# Altium footprint library PCB.PCBLIB: 320 footprints (part 4 of 20)
Each footprint in its own frame and in the unit in brackets; x right, y up, seen from the top. Pads: shape width x height; smd on the part's side, far side on the other; paste and mask are expansions set on the pad; w line width, h text height; cw(c..) or ccw(c..) is an arc to the next point about the centre after c.
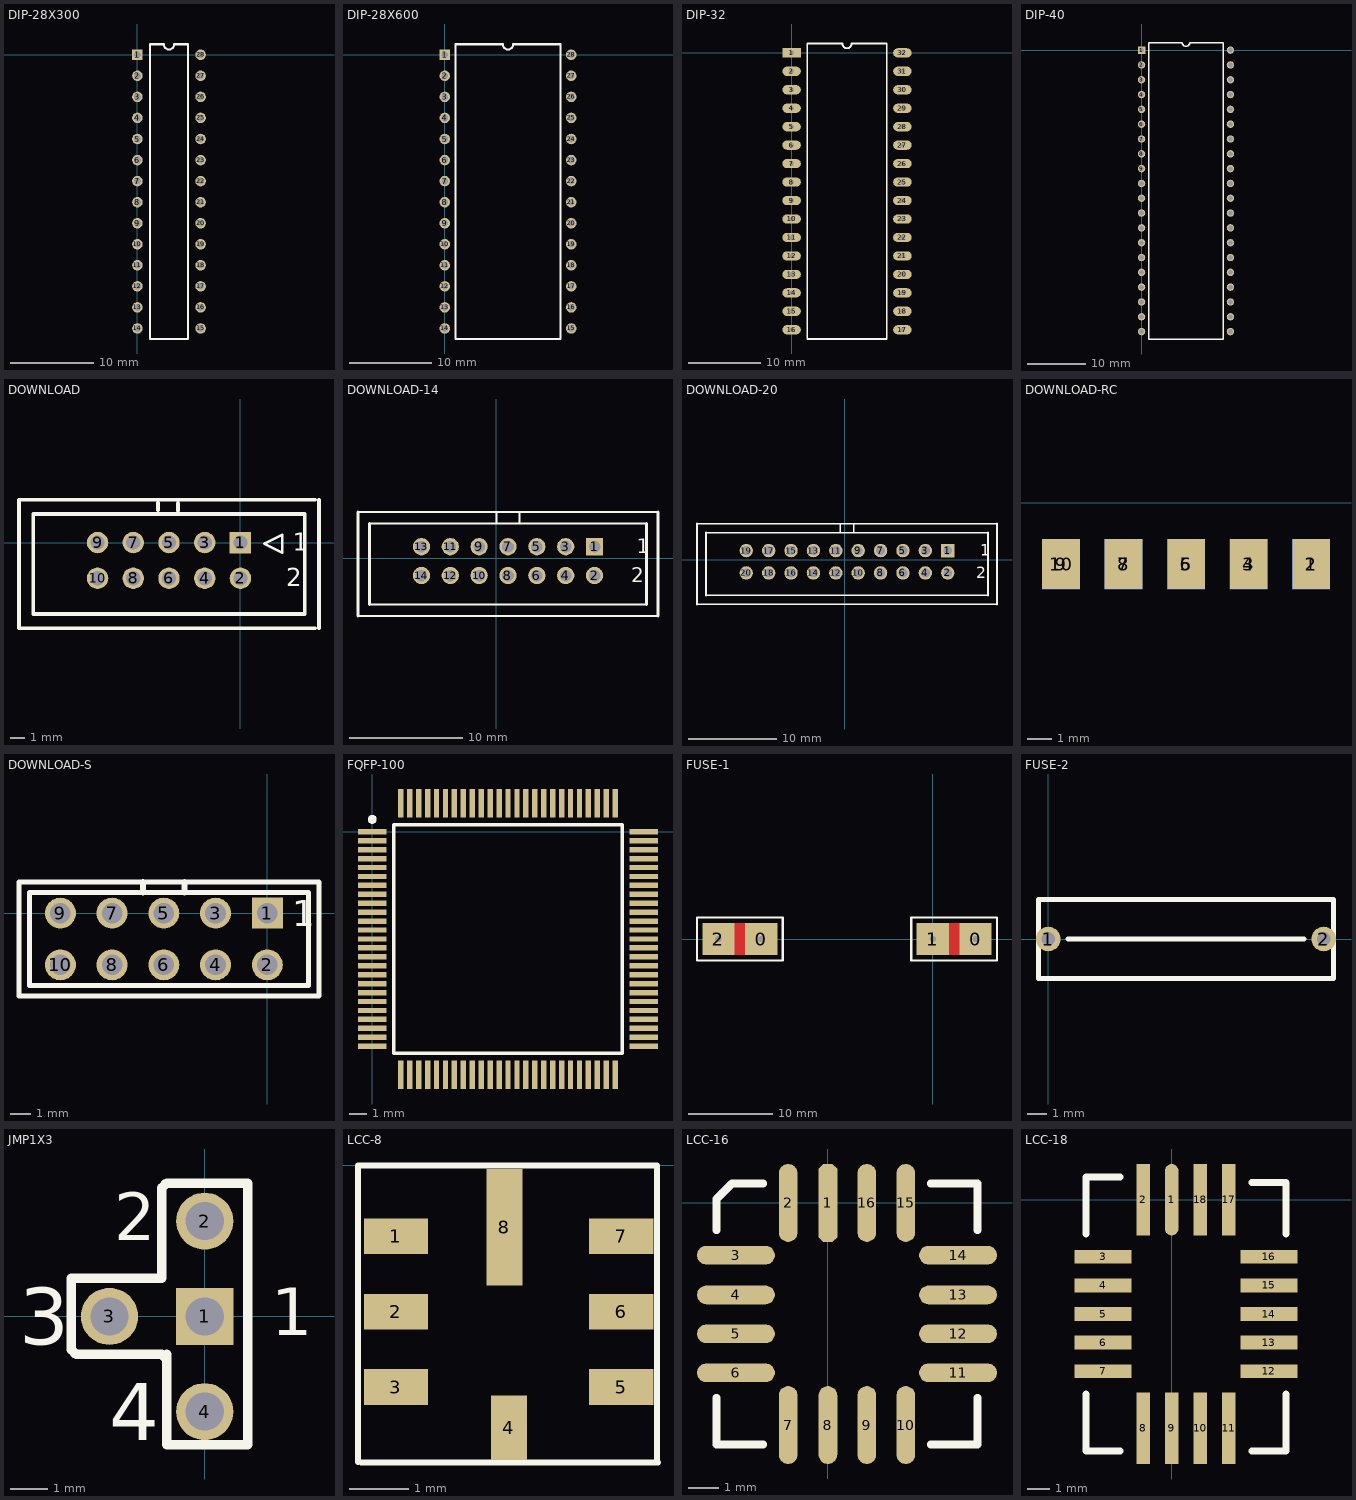
[diagram p3: the footprints below, top view; thin cyan lines are the x and y axes]

## DIP-28X300 [mil]
pads (28):
  rect 50x50 hole 32: 1(0,0)
  round 50 hole 32: 2(0,-100) 3(0,-200) 4(0,-300) 5(0,-400) 6(0,-500) 7(0,-600) 8(0,-700) 9(0,-800) 10(0,-900) 11(0,-1000) 12(0,-1100) 13(0,-1200) 14(0,-1300) 15(300,-1300) 16(300,-1200) 17(300,-1100) 18(300,-1000) 19(300,-900) 20(300,-800) 21(300,-700) 22(300,-600) 23(300,-500) 24(300,-400) 25(300,-300) 26(300,-200) 27(300,-100) 28(300,0)
TopOverlay:
  lines w10: 60,-1350 60,50 125,50 ccw(c150,50) 175,50 240,50 240,-1350 60,-1350

## DIP-28X600 [mil]
pads (28):
  rect 50x50 hole 32: 1(0,0)
  round 50 hole 32: 2(0,-100) 3(0,-200) 4(0,-300) 5(0,-400) 6(0,-500) 7(0,-600) 8(0,-700) 9(0,-800) 10(0,-900) 11(0,-1000) 12(0,-1100) 13(0,-1200) 14(0,-1300) 15(600,-1300) 16(600,-1200) 17(600,-1100) 18(600,-1000) 19(600,-900) 20(600,-800) 21(600,-700) 22(600,-600) 23(600,-500) 24(600,-400) 25(600,-300) 26(600,-200) 27(600,-100) 28(600,0)
TopOverlay:
  lines w10: 50,-1350 550,-1350 550,50 325,50 cw(c300,50) 275,50 50,50 50,-1350

## DIP-32 [mil]
pads (32):
  rect 100x50 hole 25: 1(0,0)
  oval 100x50 hole 25: 2(0,-100) 3(0,-200) 4(0,-300) 5(0,-400) 6(0,-500) 7(0,-600) 8(0,-700) 9(0,-800) 10(0,-900) 11(0,-1000) 12(0,-1100) 13(0,-1200) 14(0,-1300) 15(0,-1400) 16(0,-1500) 17(600,-1500) 18(600,-1400) 19(600,-1300) 20(600,-1200) 21(600,-1100) 22(600,-1000) 23(600,-900) 24(600,-800) 25(600,-700) 26(600,-600) 27(600,-500) 28(600,-400) 29(600,-300) 30(600,-200) 31(600,-100) 32(600,0)
TopOverlay:
  lines w10: 85,-1550 515,-1550 515,50 325,50 cw(c300,50) 275,50 85,50 85,-1550

## DIP-40 [mil]
pads (40):
  rect 50x50 hole 32: 1(0,0)
  round 50 hole 32: 2(0,-100) 3(0,-200) 4(0,-300) 5(0,-400) 6(0,-500) 7(0,-600) 8(0,-700) 9(0,-800) 10(0,-900) 11(0,-1000) 12(0,-1100) 13(0,-1200) 14(0,-1300) 15(0,-1400) 16(0,-1500) 17(0,-1600) 18(0,-1700) 19(0,-1800) 20(0,-1900) 21(600,-1900) 22(600,-1800) 23(600,-1700) 24(600,-1600) 25(600,-1500) 26(600,-1400) 27(600,-1300) 28(600,-1200) 29(600,-1100) 30(600,-1000) 31(600,-900) 32(600,-800) 33(600,-700) 34(600,-600) 35(600,-500) 36(600,-400) 37(600,-300) 38(600,-200) 39(600,-100) 40(600,0)
TopOverlay:
  lines w10: 50,-1950 550,-1950 550,50 325,50 cw(c300,50) 275,50 50,50 50,-1950

## DOWNLOAD [mil]
pads (10):
  rect 60x60 hole 40: 1(0,0)
  round 60 hole 40: 2(0,-100) 3(-100,0) 4(-100,-100) 5(-200,0) 6(-200,-100) 7(-300,0) 8(-300,-100) 9(-400,0) 10(-400,-100)
TopOverlay:
  lines w8: 67,-3 117,-28 117,22 67,-3
  lines w10: 210,-240 -620,-240 -620,120 210,120 ; 220,-240 220,120 ; -580,-200 -580,80 180,80 180,-200 -580,-200
  lines w12: -231,91 -231,111 ; -175,90 -175,110
  text "1" at 146,-23 h50
  text "2" at 128,-123 h50

## DOWNLOAD-14 [mil]
pads (14):
  rect 60x60 hole 40: 1(340,40)
  round 60 hole 40: 2(340,-60) 3(240,40) 4(240,-60) 5(140,40) 6(140,-60) 7(40,40) 8(40,-60) 9(-60,40) 10(-60,-60) 11(-160,40) 12(-160,-60) 13(-260,40) 14(-260,-60)
TopOverlay:
  lines w7: -480,-200 560,-200 ; -480,160 560,160 ; -440,-160 520,-160 ; -440,120 520,120 ; 0,120 0,160 ; 80,120 80,160
  lines w10: -480,-200 -480,160 ; -440,-160 -440,120 ; 520,-160 520,120 ; 560,-200 560,160
  text "2" at 468,-83 h50
  text "1" at 486,17 h50

## DOWNLOAD-20 [mil]
pads (20):
  rect 60x60 hole 40: 1(460,40)
  round 60 hole 40: 2(460,-60) 3(360,40) 4(360,-60) 5(260,40) 6(260,-60) 7(160,40) 8(160,-60) 9(60,40) 10(60,-60) 11(-40,40) 12(-40,-60) 13(-140,40) 14(-140,-60) 15(-240,40) 16(-240,-60) 17(-340,40) 18(-340,-60) 19(-440,40) 20(-440,-60)
TopOverlay:
  lines w7: -660,-200 680,-200 ; -660,160 680,160 ; -620,-160 640,-160 ; -620,120 640,120 ; -20,120 -20,160 ; 40,120 40,160
  lines w10: -660,-200 -660,160 ; -620,-160 -620,120 ; 640,-160 640,120 ; 680,-200 680,160
  text "1" at 606,17 h50
  text "2" at 588,-83 h50

## DOWNLOAD-RC [mil]
pads (10):
  rect 60x80 smd: 1(-103,-98) 3(-203,-98) 5(-303,-98) 7(-403,-98) 9(-503,-98)
  rect 60x80 smd far side: 2(-103,-98) 4(-203,-98) 6(-303,-98) 8(-403,-98) 10(-503,-98)

## DOWNLOAD-S [mil]
pads (10):
  rect 60x60 hole 40: 1(0,0)
  round 60 hole 40: 2(0,-100) 3(-100,0) 4(-100,-100) 5(-200,0) 6(-200,-100) 7(-300,0) 8(-300,-100) 9(-400,0) 10(-400,-100)
TopOverlay:
  lines w10: -480,-160 -480,60 100,60 100,-160 -480,-160 ; -460,-140 80,-140 80,40 -460,40 -460,-140
  lines w12: -240,40 -240,60 ; -160,40 -160,60
  text "1" at 48,-25 h50

## FQFP-100 [mm]
pads (100):
  rect 1.6x0.3 smd: 1(0,0) 2(0,-0.5) 3(0,-1) 4(0,-1.5) 5(0,-2) 6(0,-2.5) 7(0,-3) 8(0,-3.5) 9(0,-4) 10(0,-4.5) 11(0,-5) 12(0,-5.5) 13(0,-6) 14(0,-6.5) 15(0,-7) 16(0,-7.5) 17(0,-8) 18(0,-8.5) 19(0,-9) 20(0,-9.5) 21(0,-10) 22(0,-10.5) 23(0,-11) 24(0,-11.5) 25(0,-12) 51(15.2,-12) 52(15.2,-11.5) 53(15.2,-11) 54(15.2,-10.5) 55(15.2,-10) 56(15.2,-9.5) 57(15.2,-9) 58(15.2,-8.5) 59(15.2,-8) 60(15.2,-7.5) 61(15.2,-7) 62(15.2,-6.5) 63(15.2,-6) 64(15.2,-5.5) 65(15.2,-5) 66(15.2,-4.5) 67(15.2,-4) 68(15.2,-3.5) 69(15.2,-3) 70(15.2,-2.5) 71(15.2,-2) 72(15.2,-1.5) 73(15.2,-1) 74(15.2,-0.5) 75(15.2,0)
  rect 0.3x1.6 smd: 26(1.6,-13.6) 27(2.1,-13.6) 28(2.6,-13.6) 29(3.1,-13.6) 30(3.6,-13.6) 31(4.1,-13.6) 32(4.6,-13.6) 33(5.1,-13.6) 34(5.6,-13.6) 35(6.1,-13.6) 36(6.6,-13.6) 37(7.1,-13.6) 38(7.6,-13.6) 39(8.1,-13.6) 40(8.6,-13.6) 41(9.1,-13.6) 42(9.6,-13.6) 43(10.1,-13.6) 44(10.6,-13.6) 45(11.1,-13.6) 46(11.6,-13.6) 47(12.1,-13.6) 48(12.6,-13.6) 49(13.1,-13.6) 50(13.6,-13.6) 76(13.6,1.6) 77(13.1,1.6) 78(12.6,1.6) 79(12.1,1.6) 80(11.6,1.6) 81(11.1,1.6) 82(10.6,1.6) 83(10.1,1.6) 84(9.6,1.6) 85(9.1,1.6) 86(8.6,1.6) 87(8.1,1.6) 88(7.6,1.6) 89(7.1,1.6) 90(6.6,1.6) 91(6.1,1.6) 92(5.6,1.6) 93(5.1,1.6) 94(4.6,1.6) 95(4.1,1.6) 96(3.6,1.6) 97(3.1,1.6) 98(2.6,1.6) 99(2.1,1.6) 100(1.6,1.6)
TopOverlay:
  circle w0.25: c0,0.7 r0.125
  lines w0.2: 1.2,-12.4 14,-12.4 14,0.4 1.2,0.4 1.2,-12.4

## FUSE-1 [mil]
pads (4):
  rect 150x150 hole 30: 0(-800,0) 0(200,0) 1(0,0) 2(-1000,0)
TopLayer:
  rectangle: 50,-75 150,75
  rectangle: -950,-75 -850,75
BottomLayer:
  rectangle: 50,-75 150,75
  rectangle: -950,-75 -850,75
TopOverlay:
  lines w10: -1100,-100 -1100,100 -700,100 -700,-100 -1100,-100 ; -100,-100 -100,100 300,100 300,-100 -100,-100

## FUSE-2 [mil]
pads (2):
  round 50 hole 28: 1(0,0) 2(560,0)
TopOverlay:
  lines w10: 40,0 520,0 ; -20,-80 580,-80 580,80 -20,80 -20,-80

## JMP1X3 [mil]
pads (4):
  rect 60x60 hole 40: 1(0,0)
  round 60 hole 40: 2(0,100) 3(-100,0) 4(0,-100)
TopOverlay:
  lines w10: -40,-45 -45,-40 -135,-40 -140,-35 -140,40 -45,40 -45,135 -40,140 45,140 45,-135 -40,-135 -40,-40
  text "4" at -100,-130 h60
  text "3" at -195,-30 h60
  text "2" at -95,80 h50
  text "1" at 70,-20 h50

## LCC-8 [mm]
pads (8):
  rect 1.08x0.6 smd: 1(5.639,-1.194) 2(5.639,-2.464) 3(5.639,-3.734) 5(9.436,-3.734) 6(9.436,-2.464) 7(9.436,-1.194)
  rect 0.6x1.08 smd: 4(7.544,-4.42)
  rect 0.6x1.96 smd: 8(7.468,-1.041)
TopOverlay:
  lines w0.1: 5,-5 5,0 ; 5.004,-0.004 10.004,-0.004 ; 5.055,-5.008 10.055,-5.008 ; 10.037,-5.004 10.037,-0.004

## LCC-16 [mil]
pads (16):
  oct 24x100 smd: 1(0,0)
  oval 24x100 smd: 2(-51,0) 7(-51,-285) 8(0,-285) 9(50,-285) 10(100,-285) 15(100,0) 16(50,0)
  oval 100x24 smd: 3(-118,-67) 4(-118,-118) 5(-118,-168) 6(-118,-218) 11(167,-218) 12(167,-168) 13(167,-118) 14(167,-67)
TopOverlay:
  lines w10: -143,-250 -143,-310 -83,-310 ; -143,-35 -143,5 -123,25 -83,25 ; 132,-310 192,-310 192,-250 ; 132,25 192,25 192,-35

## LCC-18 [mil]
pads (18):
  oval 24x125 smd: 1(0,0)
  rect 24x125 smd: 2(-50,0) 8(-50,-400) 9(0,-400) 10(50,-400) 11(100,-400) 17(100,0) 18(50,0)
  rect 100x24 smd: 3(-120,-100) 4(-120,-150) 5(-120,-200) 6(-120,-250) 7(-120,-300) 12(170,-300) 13(170,-250) 14(170,-200) 15(170,-150) 16(170,-100)
TopOverlay:
  lines w12: -150,-340 -150,-440 -90,-440 ; -150,-60 -150,40 -90,40 ; 140,-440 200,-440 200,-340 ; 140,30 200,30 200,-60